# Altium footprint library LQ2304BLDCV2.PcbLib: 20 footprints (part 2 of 2)
Each footprint in its own frame and in the unit in brackets; x right, y up, seen from the top. Pads: shape width x height; smd on the part's side, far side on the other; paste and mask are expansions set on the pad; w line width, h text height; cw(c..) or ccw(c..) is an arc to the next point about the centre after c.
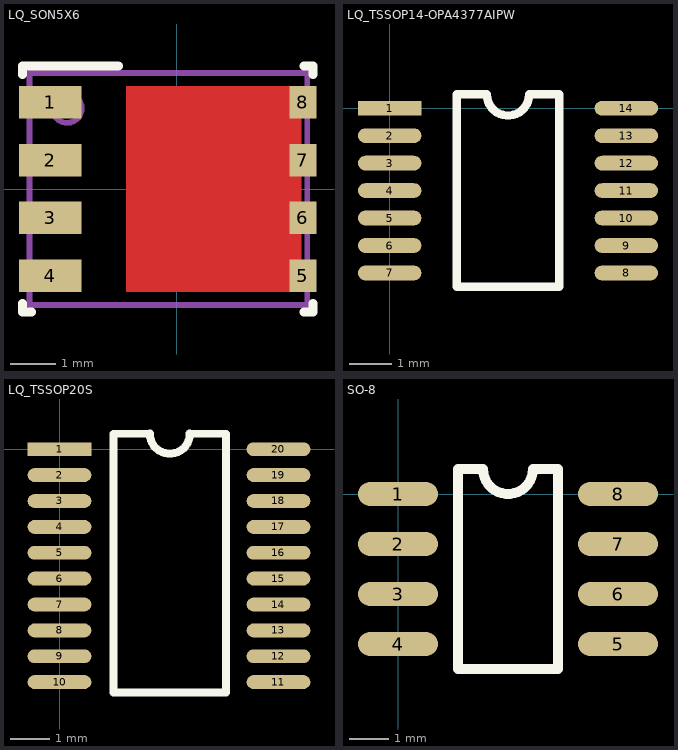
[diagram p1: the footprints below, top view; thin cyan lines are the x and y axes]

## LQ_SON5X6 [mm] "TI recommended land pattern (nominal) November 2012"
height 1.05
pads (8):
  rect 1.372x0.71 smd paste-0.4: 1(-2.776,1.905) 2(-2.776,0.635) 3(-2.776,-0.635) 4(-2.776,-1.905)
  rect 0.59x0.71 smd paste-0.3: 5(2.776,-1.905) 6(2.776,-0.635) 7(2.776,0.635) 8(2.776,1.905)
Top Layer:
  rectangle: -1.107,-2.26 2.743,2.26
Top Overlay:
  lines w0.2: -3.385,-2.52 -3.385,-2.7 -3.185,-2.7 ; -3.385,2.52 -3.385,2.7 -1.28,2.7 ; 2.8,-2.7 3,-2.7 3,-2.52 ; 2.8,2.7 3,2.7 3,2.52
Top Paste:
  rectangle: 2.303,-2.159 3.069,-1.651
  rectangle: 2.303,-0.889 3.069,-0.381
  rectangle: 2.303,0.381 3.069,0.889
  rectangle: 2.303,1.651 3.069,2.159
  rectangle: -3.312,-2.186 -2.24,-1.624
  rectangle: -3.312,-0.916 -2.24,-0.354
  rectangle: -3.312,0.354 -2.24,0.916
  rectangle: -3.312,1.624 -2.24,2.186
  rectangle: 0.723,-1.942 2.017,-1.196
  region: 0.373,-1.196 -0.921,-1.196 -0.921,-1.942 0.373,-1.942
  rectangle: 0.723,1.196 2.017,1.942
  region: 0.373,1.942 -0.921,1.942 -0.921,1.196 0.373,1.196
  rectangle: 0.723,-0.896 2.017,-0.15
  region: 0.373,-0.15 -0.921,-0.15 -0.921,-0.896 0.373,-0.896
  region: 0.373,0.896 -0.921,0.896 -0.921,0.15 0.373,0.15
  rectangle: 0.723,0.15 2.017,0.896
Mechanical 5:
  circle w0.127: c-2.405,1.775 r0.32
  lines w0.127: -3.23,-2.55 2.875,-2.55 2.875,2.55 -3.23,2.55 -3.23,-2.55
3D body: height 1.05, standoff 0, extent -3.229,-2.549 2.874,2.549
3D body: height 1.06, standoff 1, extent -2.725,1.455 -2.085,2.095

## LQ_TSSOP14-OPA4377AIPW [mm]
pads (14):
  rect 1.5x0.35 smd: 1(0,0)
  oval 1.5x0.35 smd: 2(0,-0.65) 3(0,-1.3) 4(0,-1.95) 5(0,-2.6) 6(0,-3.25) 7(0,-3.9) 8(5.6,-3.9) 9(5.6,-3.25) 10(5.6,-2.6) 11(5.6,-1.95) 12(5.6,-1.3) 13(5.6,-0.65) 14(5.6,0)
Top Overlay:
  lines w0.2: 1.585,-4.225 4.015,-4.225 4.015,0.325 3.3,0.325 cw(c2.8,0.325) 2.3,0.325 1.585,0.325 1.585,-4.225
3D body "User Library-TSSOP14-1.STEP": height 1.1, standoff 0, extent -0.46,-4.41 5.94,0.59

## LQ_TSSOP20S [mm]
pads (20):
  rect 1.6x0.35 smd: 1(0,0)
  oval 1.6x0.35 smd: 2(0,-0.65) 3(0,-1.3) 4(0,-1.95) 5(0,-2.6) 6(0,-3.25) 7(0,-3.9) 8(0,-4.55) 9(0,-5.2) 10(0,-5.85) 11(5.5,-5.85) 12(5.5,-5.2) 13(5.5,-4.55) 14(5.5,-3.9) 15(5.5,-3.25) 16(5.5,-2.6) 17(5.5,-1.95) 18(5.5,-1.3) 19(5.5,-0.65) 20(5.5,0)
Top Overlay:
  lines w0.2: 2.27,0.385 ccw(c2.77,0.385) 3.27,0.385 ; 2.27,0.39 1.355,0.385 1.355,-6.115 4.185,-6.115 4.185,0.385 3.27,0.39
3D body "User Library-TSSOP-20.step": height 1.2, standoff 0, extent -0.575,-6.23 5.975,0.37

## SO-8 [mil]
pads (8):
  oval 80x24 smd: 1(0,0) 2(0,-50) 3(0,-100) 4(0,-150) 5(220,-150) 6(220,-100) 7(220,-50) 8(220,0)
Top Overlay:
  lines w10: 60,-175 60,25 85,25 ccw(c110,25) 135,25 160,25 160,-175 60,-175
3D body "SO-8.STEP": height 66.93, standoff 0, extent -9.84,-171.65 226.38,21.26